# Altium integrated library COIN BATTERY HOLDER BS-7-RED.IntLib: 1 symbol
Pins are listed as number, name and electrical type; pins without a type are passive.

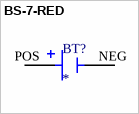
[diagram p0: symbol BS-7-RED]

## BS-7-RED
designator BT?
Battery Holder (Open) Coin, 20.0mm 1 Cell SMD (SMT) Tab; MP: BS-7-RED; Package: None; Price: None; Value: *; Availability: Unavailable
footprint BAT_BS-7-RED
pins: NEG, POS